# EAGLE library part ULS-5/20-D48 (library PowerSupply)
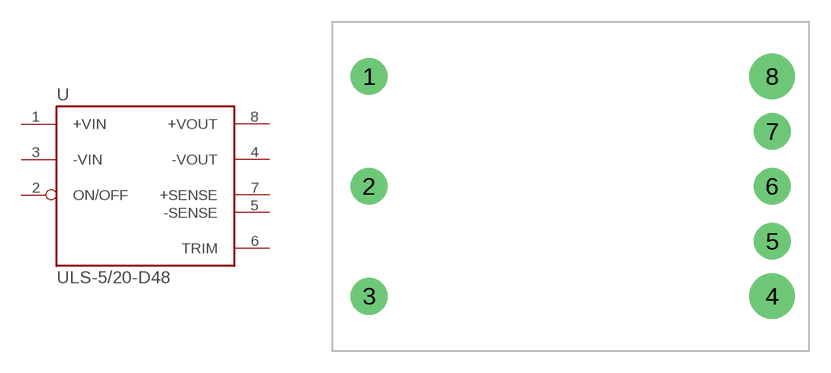
[diagram p1: symbol with the pads of 1/16_BRICK_THROUGH_HOLE; footprint 1/16_BRICK_THROUGH_HOLE]

Designator prefix U

## ULS-5/20-D48  [1/16_BRICK_THROUGH_HOLE]
1  +VIN
2  ON/OFF
3  -VIN
4  -VOUT
5  -SENSE
6  TRIM
7  +SENSE
8  +VOUT

## Footprint 1/16_BRICK_THROUGH_HOLE (pad centres in mm)
drill 1.575 pad 2.54: 1 -13.97,7.62; 2 -13.97,0; 3 -13.97,-7.62; 5 13.97,-3.81; 6 13.97,0; 7 13.97,3.81
drill 2.134: 4 13.97,-7.62; 8 13.97,7.62